# Altium schematic symbol library Low Power Bluetooth PMOD RevA.SCHLIB: 20 symbols
Pins are listed as number, name and electrical type; pins without a type are passive.

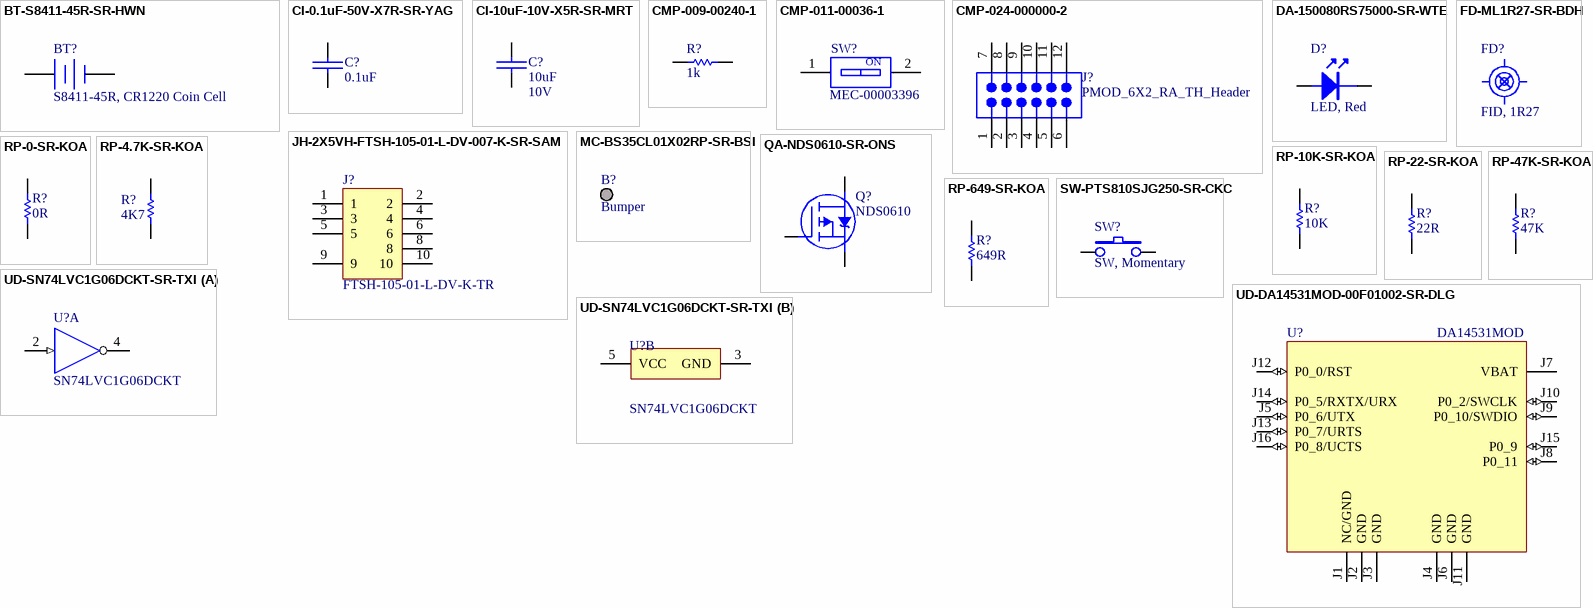
[diagram p0: symbols BT-S8411-45R-SR-HWN to UD-SN74LVC1G06DCKT-SR-TXI]

## BT-S8411-45R-SR-HWN
designator BT?, comment S8411-45R, CR1220 Coin Cell
Battery Holder, 12 mm Coin Cell, CR1220 SM; Manufacturer: Harwin; Detailed Description: Battery Holder, 12 mm Coin Cell, CR1220, SM, RoHS; Part: S8411-45R, CR1220 Coin Cell; Type: Battery Holder; Manufacturer's Part #: S8411-45R; Revision: 1; Supplier 1: Digi-Key; Supplier 2: Mouser; Supplier Part Number 1: 952-1745-1-ND; Supplier Part Number 2: 855-S8411-45R
footprint HWN_S8411-45R (Battery Holder, 12 mm Coin Cell, CR1220, SM)
pins: 1 +, 2 -

## CI-0.1uF-50V-X7R-SR-YAG
designator C?, comment 0.1uF
Capacitor, 0.1uF, 50V, SM; Manufacturer's Part #: CC0603KRX7R9BB104; Manufacturer: Yageo; Detailed Description: Capacitor, 0.1uF, 50V, SM 0603, Multilayer Ceramic,, X7R, RoHS; Tolerance: 10%; Part: 0.1uF; Type: Capacitor; Revision: 1; Package: 0603; Voltage Rating: 50V; Supplier 1: Digi-Key; Supplier 2: Future Electronics; Supplier 3: Mouser; Supplier Part Number 1: 311-1344-1-ND; Supplier Part Number 2: 9017302; Supplier Part Number 3: 603-CC603KRX7R9BB104
footprint CAPC1608X09N (Chip Capacitor, 2-Leads, Body 1.60x0.80mm, IPC Medium Density)
pins: 1, 2

## CI-10uF-10V-X5R-SR-MRT
designator C?, comment 10uF  Voltage Rating: 10V
Capacitor, 10uF, 10V, SM; Manufacturer's Part #: GRM188R61A106KE69D; Manufacturer: Murata; Detailed Description: Capacitor, 10uF, 10V, SM 0603, Multilayer Ceramic, X5R, RoHS; Tolerance: 10%; Part: 10uF; Type: Capacitor; Revision: 1; Supplier 1: Digi-Key; Supplier 2: Mouser; Supplier Part Number 1: 490-10474-1-ND; Supplier Part Number 2: 81-GRM188R61A106KE9D; Package: 0603
footprint CAPC1608X10N (Chip Capacitor, 2-Leads, Body 1.60x0.80mm, Murata, IPC Medium Density)
pins: 1, 2

## CMP-009-00240-1
designator R?, comment value 1k  (hidden comment: RES-100096-01)
Chip Resistor Thick Film 0603 1K0 ohm 1% 1/10W; Manufacturer 1: Vishay Dale; Power: 100mW; PN: CRCW06031K00FKEAC; Design Item ID: RES-100096-01; Pins: 2; Tolerance: 1%; Mfg: Vishay Dale; Case/Package: 0603; Mfg Part Number: CRCW06031K00FKEAC; Manufacturer: Vishay Dale; Manufacturer Part Number 1: CRCW06031K00FKEAC; Component Type: Standard; Source: AME-MPU-RZA3UL_v1.SCHLIB
footprint RESC0603-01
pins: 1, 2
1 alternate drawing of the same symbol

## CMP-011-00036-1
designator SW?, comment MEC-00003396
WS-DISV Small Compact SMT Flat Actuator with Top Tape 1.27 mm; Manufacturer 1: Wurth Elektronik; Manufacturer Part Number 1: 416131160801; Current: 100mA; Value: 416131160801; Voltage: 50V; Checked: OK; Height: 2.65; Operating Temperature: -40~85°C; ComponentLink1URL: https://ree-du1svn.ree.adwin.renesas.com/du1svn2/REE_PCB_ACLIB/ADLib/pdf/00003396_416131160801.pdf; Category: Mechanical; PartNumber: MEC-00003396; Pins: 2; ComponentLink1Description: Datasheet
footprint 416131160801 (SMD Dip Switch, Small Compact, Raised Actuator, 1pin)
pins: 1, 2
text: ON

## CMP-024-000000-2
designator J?, comment PMOD_6X2_RA_TH_Header
Male Header 0.1" pitch PMOD 2x6 Right Angle, through hole; Manufacturer 1: Wurth; Manufacturer Part Number 1: 61301221021; Pitch: 2.54mm; Positions: 12; Manufacturer Part Number 2: TSW-106-08-F-D-RA; Manufacturer Part Number 3: M20-9950645; Manufacturer 3: Harwin; Manufacturer 2: Samtec Inc.; Source: PMOD_Conn.SchLib; Design Item ID: PMOD_6X2_RA_TH_Header
footprint PMOD-CONN2X6-RA-TH-HDR (Right angle, Through hole PMOD header)
pins: 1, 2, 3, 4, 5, 6, 7, 8, 9, 10, 11, 12

## DA-150080RS75000-SR-WTE
designator D?, comment LED, Red
LED, Red, 0805 SM; Manufacturer's Part #: 150080RS75000; Manufacturer: Wurth Elektronik; Detailed Description: LED, Red, Clear, 0805, SM, RoHS; Part: LED, Red; Type: LED; Revision: 1; Package: 0805; Supplier 1: Digi-Key; Supplier 2: Mouser; Supplier Part Number 1: 732-4984-1-ND; Supplier Part Number 2: 710-150080RS75000
footprint DIOC2012X08N_WTE (Chip Diode, 2-Leads, Body 2.00x1.25mm, Wurth 150080xx75000, IPC Medium Density)
pins: A, K

## FD-ML1R27-SR-BDH
designator FD?, comment FID, 1R27  (no BOM)
Fiducial, 1.27mm D, Multilayer; Manufacturer: PCB Fabricator; Detailed Description: Fiducial, 1.27mm D, Multilayer, RoHS; Part: FID, 1R27; Type: Fiducial; Revision: 1
footprint FD_ML_1R27 (Fiducial, Multilayer, 1.27 mm, Circular)

## JH-2X5VH-FTSH-105-01-L-DV-007-K-SR-SAM
designator J?, comment FTSH-105-01-L-DV-K-TR
Connector, 2X5 Header, Vertical, 1.27mm Pitch, Pin 7, SM; Manufacturer's Part #: FTSH-105-01-L-DV-007-K; Manufacturer: Samtec; Detailed Description: Connector, 2X5 Header, Vertical, 1.27mm Pitch, Pin 7, SM, RoHS; Current Rating: 3.4A (max. 2 pins); Part: FTSH-105-01-L-DV-K-TR; Type: Connector; Supplier 1: Digi-Key; Supplier 2: Mouser; Supplier Part Number 1: SAM9438-ND; Supplier Part Number 2: 200-FTSH10501LDV007K; Revision: 1
footprint SAM_FTSH-105-01-L-DV-007-K (2X5 Header, Vertical, 1.27mm Pitch, Samtec, Pin 7 missing)
pins: 1, 2, 3, 4, 5, 6, 8, 9, 10

## MC-BS35CL01X02RP-SR-BSI
designator B?, comment Bumper  (mechanical)
Bumper, Cylindrical, 0.375" D, SM; Manufacturer: Bumper Speciaalities; Manufacturer's Part #: BS35CL01X02RP; Detailed Description: Bumper, Cylindrical, 0.375" D, 0.19" HSM; Part: Bumper; Type: Fiducial; Revision: 1; Supplier 1: Digi-Key; Supplier Part Number 1: 2042-1071-ND
footprint MC_D375_H190H (Bumper, 375 mil Diameter, 190 mil Height)

## QA-NDS0610-SR-ONS
designator Q?, comment NDS0610
Transistor, P-Ch Mosfet, 60V, 120mA, 10Ohm, SM; Manufacturer: On Semiconductor; Type: N-Ch Mosfet; Detailed Description: Transistor, P-Ch Mosfet, 60V, 120mA, 10Ohm, SM, SOT23-3, RoHS; Part: NDS0610; Manufacturer's Part #: NDS0610; Revision: 1; Current Rating: 120mA; Package: SOT23-3; Resistance: 10Ohm; Voltage Rating: 60V; Supplier 1: Digi-Key; Supplier 2: Newark; Supplier 3: Mouser; Supplier Part Number 1: NDS0610CT-ND; Supplier Part Number 2: 58K2015; Supplier Part Number 3: 512-NDS0610
footprint SOT95P275X112-3NF (SOT23, 3-Leads, Body 2.92x2.75mm, Pitch 0.95mm, MOSFET, IPC Medium Density)
pins: D, G, S

## RP-0-SR-KOA
designator R?, comment 0R
Resistor, 0 ohms, 1/8W, 1%, SM; Manufacturer's Part #: RK73Z1JTTD; Manufacturer: KOA Speer; Detailed Description: Resistor, 0 ohms, 1/8W, 1%, 100 ppm, SM, 75 WV, 100 OV, Thick Film, 0603, RoHS; Voltage Rating: 75V; Resistance: 0; Part: 0R; Type: Resistor; Revision: 1; Power Rating: 1/8W; Tolerance: 1%; Package: 0603; Supplier 1: Arrow Electronics; Supplier 2: Digi-Key; Supplier 3: Mouser; Supplier Part Number 1: RK73Z1JTTD; Supplier Part Number 2: 2019-RK73Z1JTTDCT-ND; Supplier Part Number 3: 660-RK73Z1JTTD
footprint RESC1608X06N (Chip Resistor, 2-Leads, Body 1.60x0.80mm, IPC Medium Density)
pins: 1, 2

## RP-4.7K-SR-KOA
designator R?, comment 4K7
Resistor, 4.7K ohms, 1/8W, 1%, SM; Manufacturer's Part #: RK73H1JTTD4701F; Manufacturer: KOA Speer; Detailed Description: Resistor, 4.7K ohms, 1/8W, 1%, 100 ppm, SM, 75 WV, 100 OV, Thick Film, 0603, RoHS; Voltage Rating: 75V; Part: 4K7; Type: Resistor; Revision: 1; Power Rating: 1/8W; Tolerance: 1%; Resistance: 4.7K; Package: 0603; Supplier 1: Digi-Key; Supplier 2: Mouser; Supplier Part Number 1: 2019-RK73H1JTTD4701FCT-ND; Supplier Part Number 2: 660-RK73H1JTTD4701F
footprint RESC1608X06N (Chip Resistor, 2-Leads, Body 1.60x0.80mm, IPC Medium Density)
pins: 1, 2

## RP-10K-SR-KOA
designator R?, comment 10K
Resistor, 10K ohms, 1/8W, 1%, SM; Manufacturer's Part #: RK73H1JTTD1002F; Manufacturer: KOA Speer; Detailed Description: Resistor, 10K ohms, 1/8W, 1%, 100 ppm, SM, 75 WV, 100 OV, Thick Film, 0603, RoHS; Voltage Rating: 75V; Part: 10K; Type: Resistor; Revision: 1; Power Rating: 1/8W; Tolerance: 1%; Resistance: 10K; Package: 0603; Supplier 1: Digi-Key; Supplier 2: Mouser; Supplier 3: Arrow Electronics; Supplier Part Number 1: 2019-RK73H1JTTD1002FCT-ND; Supplier Part Number 2: 660-RK73H1JTTD1002F; Supplier Part Number 3: RK73H1JTTD1002F
footprint RESC1608X06N (Chip Resistor, 2-Leads, Body 1.60x0.80mm, IPC Medium Density)
pins: 1, 2

## RP-22-SR-KOA
designator R?, comment 22R
Resistor, 22 ohms, 1/8W, 1%, SM; Manufacturer's Part #: RK73H1JTTD22R0F; Manufacturer: KOA Speer; Detailed Description: Resistor, 22 ohms, 1/8W, 1%, 100 ppm, SM, 75 WV, 100 OV, Thick Film, 0603, RoHS; Voltage Rating: 75V; Resistance: 22; Part: 22R; Type: Resistor; Revision: 1; Power Rating: 1/8W; Tolerance: 1%; Package: 0603; Supplier 1: Digi-Key; Supplier 2: Arrow Electronics; Supplier 3: Mouser; Supplier Part Number 1: 2019-RK73H1JTTD22R0FCT-ND; Supplier Part Number 2: RK73H1JTTD22R0F; Supplier Part Number 3: 660-RK73H1JTTD22R0F
footprint RESC1608X06N (Chip Resistor, 2-Leads, Body 1.60x0.80mm, IPC Medium Density)
pins: 1, 2

## RP-47K-SR-KOA
designator R?, comment 47K
Resistor, 47K ohms, 1/8W, 1%, SM; Manufacturer's Part #: RK73H1JTTD6802F; Manufacturer: KOA Speer; Detailed Description: Resistor, 47K ohms, 1/8W, 1%, 100 ppm, SM, 75 WV, 100 OV, Thick Film, 0603, RoHS; Voltage Rating: 75V; Part: 47K; Type: Resistor; Revision: 1; Power Rating: 1/8W; Tolerance: 1%; Resistance: 47K; Package: 0603; Supplier 1: Digi-Key; Supplier 2: Mouser; Supplier 3: Arrow Electronics; Supplier Part Number 1: 2019-RK73H1JTTD6802FCT-ND; Supplier Part Number 2: 660-RK73H1JTTD6802F; Supplier Part Number 3: RK73H1JTTD6802F
footprint RESC1608X06N (Chip Resistor, 2-Leads, Body 1.60x0.80mm, IPC Medium Density)
pins: 1, 2

## RP-649-SR-KOA
designator R?, comment 649R
Resistor, 649 ohms, 1/8W, 1%, SM; Manufacturer's Part #: RK73H1JTTD6490F; Manufacturer: KOA Speer; Detailed Description: Resistor, 649 ohms, 1/8W, 1%, 100 ppm, SM, 75 WV, 100 OV, Thick Film, 0603, RoHS; Voltage Rating: 75V; Resistance: 649; Part: 649R; Type: Resistor; Revision: 1; Power Rating: 1/8W; Tolerance: 1%; Package: 0603; Supplier 1: Digi-Key; Supplier 2: Mouser; Supplier 3: Arrow Electronics; Supplier Part Number 1: 2019-RK73H1JTTD6490FCT-ND; Supplier Part Number 2: 660-RK73H1JTTD6490F; Supplier Part Number 3: RK73H1JTTD6490F
footprint RESC1608X06N (Chip Resistor, 2-Leads, Body 1.60x0.80mm, IPC Medium Density)
pins: 1, 2

## SW-PTS810SJG250-SR-CKC
designator SW?, comment SW, Momentary
Switch, Pushbutton, Top Actuated, SM; Manufacturer's Part #: PTS810 SJG 250 SMTR LFS; Manufacturer: C&K Components; Detailed Description: Switch, Pushbutton, Top Actuated, SM, RoHS; Part: SW, Momentary; Type: Switch, Pushbutton; Revision: 1; Supplier 1: Digi-Key; Supplier 2: Newark; Supplier Part Number 1: CKN10504CT-ND; Supplier Part Number 2: 35AH5293
footprint SW_PTS810 (C&K Compnents, Momentary Tactile Switch,PTS810 Series)
pins: 1, 2, 3, 4

## UD-DA14531MOD-00F01002-SR-DLG
designator U?, comment DA14531MOD
DA14531MOD, Bluetooth Low Energy 5.1 Module, SM; Manufacturer Part Number 1: DA14531MOD-00F01002; Manufacturer 1: Renesas Electronics; Detailed Description: DA14531MOD, Bluetooth Low Energy 5.1 Module, 128 kB Flash, 144kB ROM, 48kB RAM, 16-SMD Module, SM, RoHS; Part: DA14531MOD; Type: BLE 5.1 Module; Revision: 1; Package: 16-SMD Module; Supplier 1: Digi-Key; Supplier 2: Mouser; Supplier Part Number 1: 1695-DA14531MOD-00F01002CT-ND; Supplier Part Number 2: 724-DA14531MODF01002
footprint DLG_DA14531MOD-00F01002 (Dialog, DA14531MOD)
pins: J1 NC/GND (power), J2 GND (power), J3 GND (power), J4 GND (power), J5 P0_6/UTX (io), J6 GND (power), J7 VBAT (power), J8 P0_11 (io), J9 P0_10/SWDIO (io), J10 P0_2/SWCLK (io), J11 GND (power), J12 P0_0/RST (io), J13 P0_7/URTS (io), J14 P0_5/RXTX/URX (io), J15 P0_9 (io), J16 P0_8/UCTS (io)

## UD-SN74LVC1G06DCKT-SR-TXI
designator U?, comment SN74LVC1G06DCKT
IC, Digital, Buffer,  Inverting, Open Drain, SM; Manufacturer: Texas Instruments; Alternate Part #: SN74LVC1G07DCKR; Detailed Description: IC, Digital, Buffer, Inverting, Open Drain, SM, SC-70-5, RoHS; Manufacturer's Part #: SN74LVC1G06DCKT; Part: SN74LVC1G06DCKT; Type: Buffer; Package: SC-70-5; Alternate Part Supplier: Texas Instruments; Revision: 1; Supplier 1: Digi-Key; Supplier 2: Mouser; Supplier 3: Arrow Electronics; Supplier Part Number 1: 296-32290-1-ND; Supplier Part Number 2: 595-SN74LVC1G06DCKT; Supplier Part Number 3: SN74LVC1G06DCKT
footprint SOT65P210X110-5N (SC-70-5, 5-Leads, Body 2.00x2.10mm, Pitch 0.65mm, IPC Medium Density)
part A pins: 2 A (in), 4 Y (hiz)
part B pins: 3 GND (power), 5 VCC (power)